# EAGLE library part ICM7555 (library U-Time)
ICM7555 [INTERSIL,ICM7555IBAZ-T] TIMER 555 8SOIC note each resistor in Maxim part is 100k +/- 20%
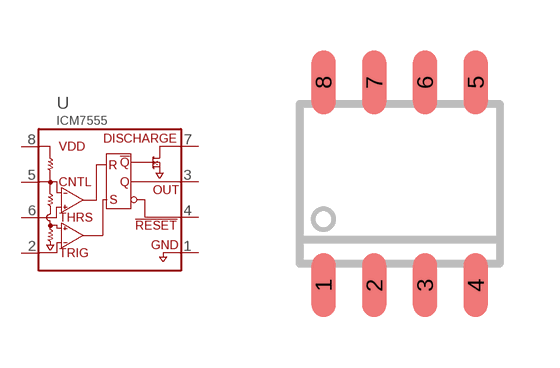
[diagram p0: symbol with the pads of SOIC8; footprint SOIC8]

Designator prefix U

## ICM7555  [SOIC8]
1  GND  pwr
2  TRIG  in
3  OUT  out
4  !RESET  in
5  CNTL
6  THRS  in
7  DISCHARGE  out
8  VDD  pwr

## Footprint SOIC8 (pad centres in mm)
8POS Standard SMALLl OUTLINE Package (SO/SOIC) Narrow Body
smd 0.6 x 1.6: 1 -1.905,-2.54; 2 -0.635,-2.54; 3 0.635,-2.54; 4 1.905,-2.54; 5 1.905,2.54; 6 0.635,2.54; 7 -0.635,2.54; 8 -1.905,2.54